# EAGLE library part SLG46536 (library mylib)
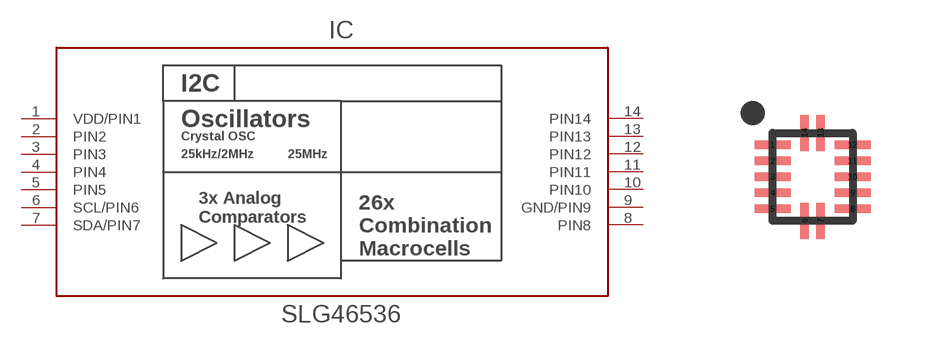
[diagram p126: symbol with the pads of STQFN14-0.4P2.0X2.2; footprint STQFN14-0.4P2.0X2.2]

Designator prefix IC

## SLG46536V  [STQFN14-0.4P2.0X2.2]
1  VDD/PIN1
2  PIN2
3  PIN3
4  PIN4
5  PIN5
6  SCL/PIN6
7  SDA/PIN7
8  PIN8
9  GND/PIN9
10  PIN10
11  PIN11
12  PIN12
13  PIN13
14  PIN14

## Footprint STQFN14-0.4P2.0X2.2 (pad centres in mm)
smd 0.9 x 0.21: 1 -1,0.8; 2 -1,0.4; 3 -1,0; 4 -1,-0.4; 5 -1,-0.8; 8 1,-0.8; 9 1,-0.4; 10 1,0; 11 1,0.4; 12 1,0.8
smd 0.21 x 0.9: 6 -0.2,-1.1; 7 0.2,-1.1; 13 0.2,1.1; 14 -0.2,1.1